# Altium footprint library OpticalComponents.PcbLib: 41 footprints (part 3 of 3)
Each footprint in its own frame and in the unit in brackets; x right, y up, seen from the top. Pads: shape width x height; smd on the part's side, far side on the other; paste and mask are expansions set on the pad; w line width, h text height; cw(c..) or ccw(c..) is an arc to the next point about the centre after c.
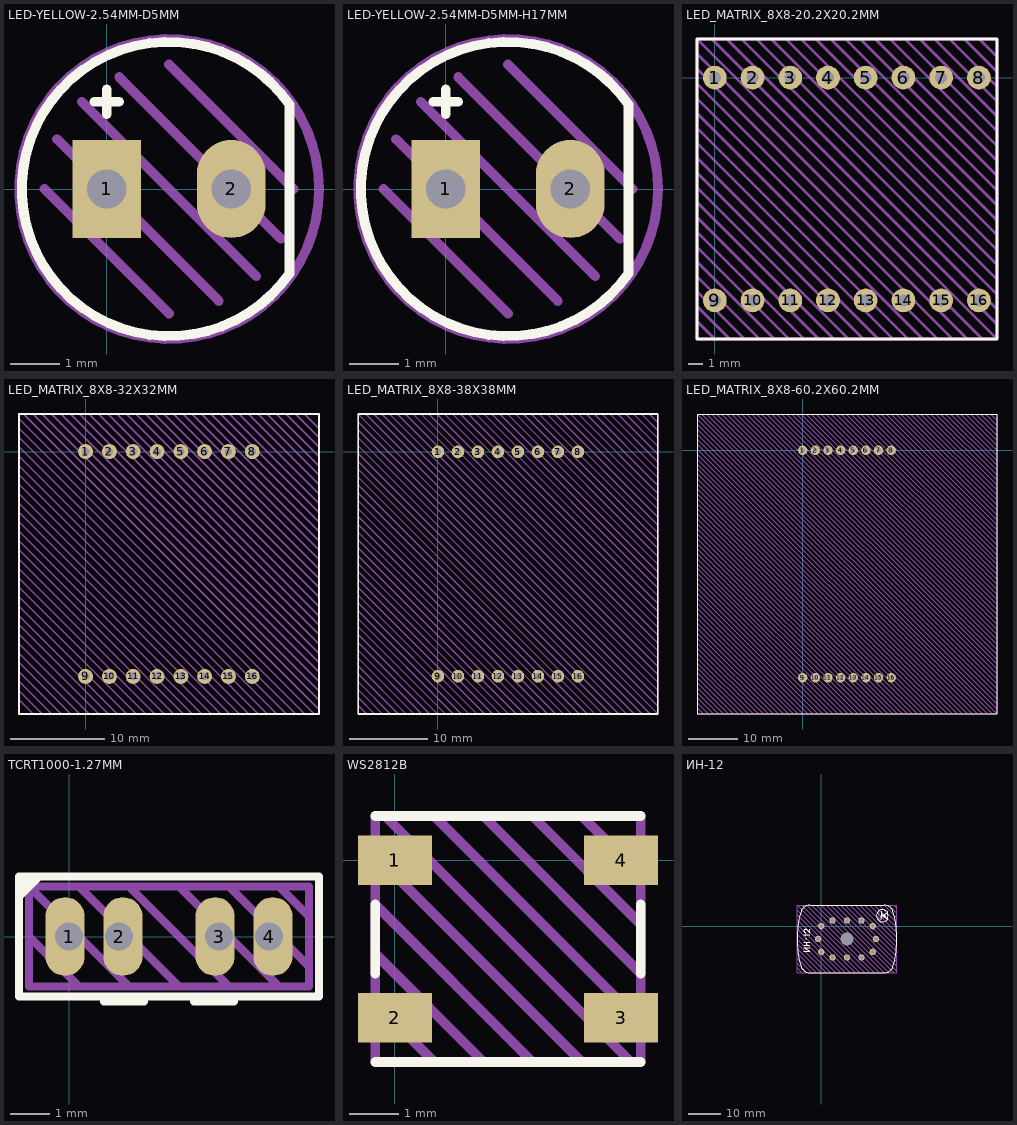
[diagram p2: the footprints below, top view; thin cyan lines are the x and y axes]

## LED-YELLOW-2.54MM-D5MM [mm]
pads (2):
  rect 1.4x2 hole 0.8: 1(0,0)
  oval 1.4x2 hole 0.8: 2(2.54,0)
Top Overlay:
  lines w0.2: -0.254,1.778 -0.127,1.778 0.127,1.778 0.254,1.778 ; 0,1.524 0,2.032 ; 3.727,-1.721 cw(c1.27,0) 3.727,1.721 3.727,-1.721
Top Draw:
  circle w0.2: c1.27,0 r3.059
  lines w0.2: -1.27,0 1.27,-2.54 ; -1.016,1.016 2.286,-2.286 ; -0.508,1.778 3.048,-1.778 ; 0.254,2.286 3.556,-1.016 ; 1.27,2.54 3.81,0
Top Info:
  text "'.Comment'" at -1.578,-4.372 h1
3D body: height 0.5, standoff -3, extent -0.25,-0.25 0.25,0.25
3D body: height 0.5, standoff -3, extent 2.29,-0.25 2.79,0.25
3D body: height 5.2, standoff 1, extent -1.23,-2.5 3.77,2.5
3D body: height 7.7, standoff 2.7, extent -1.236,-2.5 3.764,2.5
3D body: height 1, standoff 0, extent -1.63,-2.909 3.77,2.909

## LED-YELLOW-2.54MM-D5MM-H17MM [mm]
pads (2):
  rect 1.4x2 hole 0.8: 1(0,0)
  oval 1.4x2 hole 0.8: 2(2.54,0)
Top Overlay:
  lines w0.2: -0.254,1.778 -0.127,1.778 0.127,1.778 0.254,1.778 ; 0,1.524 0,2.032 ; 3.727,-1.721 cw(c1.27,0) 3.727,1.721 3.727,-1.721
Top Draw:
  circle w0.2: c1.27,0 r3.059
  lines w0.2: -1.27,0 1.27,-2.54 ; -1.016,1.016 2.286,-2.286 ; -0.508,1.778 3.048,-1.778 ; 0.254,2.286 3.556,-1.016 ; 1.27,2.54 3.81,0
Top Info:
  text "'.Comment'" at -1.578,-4.372 h1
3D body: height 10, standoff -3, extent 2.29,-0.25 2.79,0.25
3D body: height 10, standoff -3, extent -0.25,-0.25 0.25,0.25
3D body: height 7.8, standoff 7, extent -0.3,-0.25 0.3,0.25
3D body: height 7.8, standoff 7, extent 2.24,-0.25 2.84,0.25
3D body: height 14.5, standoff 10.3, extent -1.23,-2.5 3.77,2.5
3D body: height 17, standoff 12, extent -1.236,-2.5 3.764,2.5
3D body: height 10.3, standoff 9.3, extent -1.63,-2.909 3.77,2.909

## LED_MATRIX_8X8-20.2X20.2MM [mm]
pads (16):
  round 1.6 hole 0.8: 1(0,0) 2(2.54,0) 3(5.08,0) 4(7.62,0) 5(10.16,0) 6(12.7,0) 7(15.24,0) 8(17.78,0) 9(0,-15) 10(2.54,-15) 11(5.08,-15) 12(7.62,-15) 13(10.16,-15) 14(12.7,-15) 15(15.24,-15) 16(17.78,-15)
Top Overlay:
  lines w0.2: -1.2,-17.6 -1.2,2.6 19,2.6 19,-17.6 -1.2,-17.6
Top Draw:
  lines w0.2: -1.2,-16.4 0,-17.6 ; -1.2,-15.4 1,-17.6 ; -1.2,-14.4 2,-17.6 ; -1.2,-13.4 3,-17.6 ; -1.2,-12.4 4,-17.6 ; -1.2,-11.4 5,-17.6 ; -1.2,-10.4 6,-17.6 ; -1.2,-9.4 7,-17.6 ; -1.2,-8.4 8,-17.6 ; -1.2,-7.4 9,-17.6 ; -1.2,-6.4 10,-17.6 ; -1.2,-5.4 11,-17.6 ; -1.2,-4.4 12,-17.6 ; -1.2,-3.4 13,-17.6 ; -1.2,-2.4 14,-17.6 ; -1.2,-1.4 15,-17.6 ; -1.2,-0.4 16,-17.6 ; -1.2,0.6 17,-17.6 ; -1.2,1.6 18,-17.6 ; -0.2,2.6 19,-16.6 ; 0.8,2.6 19,-15.6 ; 1.8,2.6 19,-14.6 ; 2.8,2.6 19,-13.6 ; 3.8,2.6 19,-12.6 ; 4.8,2.6 19,-11.6 ; 5.8,2.6 19,-10.6 ; 6.8,2.6 19,-9.6 ; 7.8,2.6 19,-8.6 ; 8.8,2.6 19,-7.6 ; 9.8,2.6 19,-6.6 ; 10.8,2.6 19,-5.6 ; 11.8,2.6 19,-4.6 ; 12.8,2.6 19,-3.6 ; 13.8,2.6 19,-2.6 ; 14.8,2.6 19,-1.6 ; 15.8,2.6 19,-0.6 ; 16.8,2.6 19,0.4 ; 17.8,2.6 19,1.4 ; -1.2,2.6 19,-17.6 ; -1.2,2.6 19,2.6 19,-17.6 ; -1.2,2.6 -1.2,-17.6 19,-17.6
Top Info:
  text "'.Comment'" at 0.393,-20.666 h2
3D body "LED_MATRIX_8X8-20.2X20.2MM.stp": height 5.9, standoff -2.7, extent -1.21,-17.6 18.99,2.6

## LED_MATRIX_8X8-32X32MM [mm]
pads (16):
  round 1.6 hole 0.8: 1(0,0) 2(2.54,0) 3(5.08,0) 4(7.62,0) 5(10.16,0) 6(12.7,0) 7(15.24,0) 8(17.78,0) 9(0,-24) 10(2.54,-24) 11(5.08,-24) 12(7.62,-24) 13(10.16,-24) 14(12.7,-24) 15(15.24,-24) 16(17.78,-24)
Top Overlay:
  lines w0.2: -7.1,-28 24.9,-28 24.9,4 -7.1,4 -7.1,-28
Top Draw:
  lines w0.2: -7.103,-26.501 -5.603,-28.001 ; -7.103,-25.501 -4.603,-28.001 ; -7.103,-24.501 -3.603,-28.001 ; -7.103,-23.501 -2.603,-28.001 ; -7.103,-22.501 -1.603,-28.001 ; -7.103,-21.501 -0.603,-28.001 ; -7.103,-20.501 0.397,-28.001 ; -7.103,-19.501 1.397,-28.001 ; -7.103,-18.501 2.397,-28.001 ; -7.103,-17.501 3.397,-28.001 ; -7.103,-16.501 4.397,-28.001 ; -7.103,-15.501 5.397,-28.001 ; -7.103,-14.501 6.397,-28.001 ; -7.103,-13.501 7.397,-28.001 ; -7.103,-12.501 8.397,-28.001 ; -7.103,-11.501 9.397,-28.001 ; -7.103,-10.501 10.397,-28.001 ; -7.103,-9.501 11.397,-28.001 ; -7.103,-8.501 12.397,-28.001 ; -7.103,-7.501 13.397,-28.001 ; -7.103,-6.501 14.397,-28.001 ; -7.103,-5.501 15.397,-28.001 ; -7.103,-4.501 16.397,-28.001 ; -7.103,-3.501 17.397,-28.001 ; -7.103,-2.501 18.397,-28.001 ; -7.103,-1.501 19.397,-28.001 ; -7.103,-0.501 20.397,-28.001 ; -7.103,0.499 21.397,-28.001 ; -7.103,1.499 22.397,-28.001 ; -7.103,2.499 23.397,-28.001 ; -7.103,3.499 24.397,-28.001 ; -6.603,3.999 24.897,-27.501 ; -5.603,3.999 24.897,-26.501 ; -4.603,3.999 24.897,-25.501 ; -3.603,3.999 24.897,-24.501 ; -2.603,3.999 24.897,-23.501 ; -1.603,3.999 24.897,-22.501 ; -0.603,3.999 24.897,-21.501 ; 0.397,3.999 24.897,-20.501 ; 1.397,3.999 24.897,-19.501 ; 2.397,3.999 24.897,-18.501 ; 3.397,3.999 24.897,-17.501 ; 4.397,3.999 24.897,-16.501 ; 5.397,3.999 24.897,-15.501 ; 6.397,3.999 24.897,-14.501 ; 7.397,3.999 24.897,-13.501 ; 8.397,3.999 24.897,-12.501 ; 9.397,3.999 24.897,-11.501 ; 10.397,3.999 24.897,-10.501 ; 11.397,3.999 24.897,-9.501 ; 12.397,3.999 24.897,-8.501 ; 13.397,3.999 24.897,-7.501 ; 14.397,3.999 24.897,-6.501 ; 15.397,3.999 24.897,-5.501 ; 16.397,3.999 24.897,-4.501 ; 17.397,3.999 24.897,-3.501 ; 18.397,3.999 24.897,-2.501 ; 19.397,3.999 24.897,-1.501 ; 20.397,3.999 24.897,-0.501 ; 21.397,3.999 24.897,0.499 ; 22.397,3.999 24.897,1.499 ; 23.397,3.999 24.897,2.499 ; -7.103,-28.001 24.897,-28.001 24.897,3.999 -7.103,3.999 -7.103,-28.001
Top Info:
  text "'.Comment'" at -1.732,-31.708 h2.5
3D body "LED_MATRIX_8X8-32X32MM.stp": height 6.08, standoff -2.7, extent -7.11,-28 24.89,4

## LED_MATRIX_8X8-38X38MM [mm]
pads (16):
  round 1.6 hole 0.8: 1(0,0) 2(2.54,0) 3(5.08,0) 4(7.62,0) 5(10.16,0) 6(12.7,0) 7(15.24,0) 8(17.78,0) 9(0,-28.5) 10(2.54,-28.5) 11(5.08,-28.5) 12(7.62,-28.5) 13(10.16,-28.5) 14(12.7,-28.5) 15(15.24,-28.5) 16(17.78,-28.5)
Top Overlay:
  lines w0.2: -10.1,-33.3 -10.1,4.8 27.9,4.8 27.9,-33.3 -10.1,-33.3
Top Draw:
  lines w0.2: -10.1,-32.25 -9.05,-33.3 ; -10.1,-31.25 -8.05,-33.3 ; -10.1,-30.25 -7.05,-33.3 ; -10.1,-29.25 -6.05,-33.3 ; -10.1,-28.25 -5.05,-33.3 ; -10.1,-27.25 -4.05,-33.3 ; -10.1,-26.25 -3.05,-33.3 ; -10.1,-25.25 -2.05,-33.3 ; -10.1,-24.25 -1.05,-33.3 ; -10.1,-23.25 -0.05,-33.3 ; -10.1,-22.25 0.95,-33.3 ; -10.1,-21.25 1.95,-33.3 ; -10.1,-20.25 2.95,-33.3 ; -10.1,-19.25 3.95,-33.3 ; -10.1,-18.25 4.95,-33.3 ; -10.1,-17.25 5.95,-33.3 ; -10.1,-16.25 6.95,-33.3 ; -10.1,-15.25 7.95,-33.3 ; -10.1,-14.25 8.95,-33.3 ; -10.1,-13.25 9.95,-33.3 ; -10.1,-12.25 10.95,-33.3 ; -10.1,-11.25 11.95,-33.3 ; -10.1,-10.25 12.95,-33.3 ; -10.1,-9.25 13.95,-33.3 ; -10.1,-8.25 14.95,-33.3 ; -10.1,-7.25 15.95,-33.3 ; -10.1,-6.25 16.95,-33.3 ; -10.1,-5.25 17.95,-33.3 ; -10.1,-4.25 18.95,-33.3 ; -10.1,-3.25 19.95,-33.3 ; -10.1,-2.25 20.95,-33.3 ; -10.1,-1.25 21.95,-33.3 ; -10.1,-0.25 22.95,-33.3 ; -10.1,0.75 23.95,-33.3 ; -10.1,1.75 24.95,-33.3 ; -10.1,2.75 25.95,-33.3 ; -10.1,3.75 26.95,-33.3 ; -10.1,4.75 27.9,-33.25 ; -9.15,4.8 27.9,-32.25 ; -8.15,4.8 27.9,-31.25 ; -7.15,4.8 27.9,-30.25 ; -6.15,4.8 27.9,-29.25 ; -5.15,4.8 27.9,-28.25 ; -4.15,4.8 27.9,-27.25 ; -3.15,4.8 27.9,-26.25 ; -2.15,4.8 27.9,-25.25 ; -1.15,4.8 27.9,-24.25 ; -0.15,4.8 27.9,-23.25 ; 0.85,4.8 27.9,-22.25 ; 1.85,4.8 27.9,-21.25 ; 2.85,4.8 27.9,-20.25 ; 3.85,4.8 27.9,-19.25 ; 4.85,4.8 27.9,-18.25 ; 5.85,4.8 27.9,-17.25 ; 6.85,4.8 27.9,-16.25 ; 7.85,4.8 27.9,-15.25 ; 8.85,4.8 27.9,-14.25 ; 9.85,4.8 27.9,-13.25 ; 10.85,4.8 27.9,-12.25 ; 11.85,4.8 27.9,-11.25 ; 12.85,4.8 27.9,-10.25 ; 13.85,4.8 27.9,-9.25 ; 14.85,4.8 27.9,-8.25 ; 15.85,4.8 27.9,-7.25 ; 16.85,4.8 27.9,-6.25 ; 17.85,4.8 27.9,-5.25 ; 18.85,4.8 27.9,-4.25 ; 19.85,4.8 27.9,-3.25 ; 20.85,4.8 27.9,-2.25 ; 21.85,4.8 27.9,-1.25 ; 22.85,4.8 27.9,-0.25 ; 23.85,4.8 27.9,0.75 ; 24.85,4.8 27.9,1.75 ; 25.85,4.8 27.9,2.75 ; 26.85,4.8 27.9,3.75 ; -10.1,-33.3 -10.1,4.8 27.9,4.8 27.9,-33.3 -10.1,-33.3
Top Info:
  text "'.Comment'" at -5.98,-38.541 h3.5
3D body "LED_MATRIX_8X8-38X38MM.stp": height 7.2, standoff -2.7, extent -10.11,-33.25 27.89,4.75

## LED_MATRIX_8X8-60.2X60.2MM [mm]
pads (16):
  round 1.9 hole 0.9: 1(0,0) 2(2.54,0) 3(5.08,0) 4(7.62,0) 5(10.16,0) 6(12.7,0) 7(15.24,0) 8(17.78,0) 9(0,-45.7) 10(2.54,-45.7) 11(5.08,-45.7) 12(7.62,-45.7) 13(10.16,-45.7) 14(12.7,-45.7) 15(15.24,-45.7) 16(17.78,-45.7)
Top Overlay:
  lines w0.2: -21.2,-53 -21.2,7.3 39,7.3 39,-53 -21.2,-53
Top Draw:
  lines w0.2: -21.2,-51.75 -19.95,-53 ; -21.2,-50.75 -18.95,-53 ; -21.2,-49.75 -17.95,-53 ; -21.2,-48.75 -16.95,-53 ; -21.2,-47.75 -15.95,-53 ; -21.2,-46.75 -14.95,-53 ; -21.2,-45.75 -13.95,-53 ; -21.2,-44.75 -12.95,-53 ; -21.2,-43.75 -11.95,-53 ; -21.2,-42.75 -10.95,-53 ; -21.2,-41.75 -9.95,-53 ; -21.2,-40.75 -8.95,-53 ; -21.2,-39.75 -7.95,-53 ; -21.2,-38.75 -6.95,-53 ; -21.2,-37.75 -5.95,-53 ; -21.2,-36.75 -4.95,-53 ; -21.2,-35.75 -3.95,-53 ; -21.2,-34.75 -2.95,-53 ; -21.2,-33.75 -1.95,-53 ; -21.2,-32.75 -0.95,-53 ; -21.2,-31.75 0.05,-53 ; -21.2,-30.75 1.05,-53 ; -21.2,-29.75 2.05,-53 ; -21.2,-28.75 3.05,-53 ; -21.2,-27.75 4.05,-53 ; -21.2,-26.75 5.05,-53 ; -21.2,-25.75 6.05,-53 ; -21.2,-24.75 7.05,-53 ; -21.2,-23.75 8.05,-53 ; -21.2,-22.75 9.05,-53 ; -21.2,-21.75 10.05,-53 ; -21.2,-20.75 11.05,-53 ; -21.2,-19.75 12.05,-53 ; -21.2,-18.75 13.05,-53 ; -21.2,-17.75 14.05,-53 ; -21.2,-16.75 15.05,-53 ; -21.2,-15.75 16.05,-53 ; -21.2,-14.75 17.05,-53 ; -21.2,-13.75 18.05,-53 ; -21.2,-12.75 19.05,-53 ; -21.2,-11.75 20.05,-53 ; -21.2,-10.75 21.05,-53 ; -21.2,-9.75 22.05,-53 ; -21.2,-8.75 23.05,-53 ; -21.2,-7.75 24.05,-53 ; -21.2,-6.75 25.05,-53 ; -21.2,-5.75 26.05,-53 ; -21.2,-4.75 27.05,-53 ; -21.2,-3.75 28.05,-53 ; -21.2,-2.75 29.05,-53 ; -21.2,-1.75 30.05,-53 ; -21.2,-0.75 31.05,-53 ; -21.2,0.25 32.05,-53 ; -21.2,1.25 33.05,-53 ; -21.2,2.25 34.05,-53 ; -21.2,3.25 35.05,-53 ; -21.2,4.25 36.05,-53 ; -21.2,5.25 37.05,-53 ; -21.2,6.25 38.05,-53 ; -21.2,7.25 39,-52.95 ; -20.25,7.3 39,-51.95 ; -19.25,7.3 39,-50.95 ; -18.25,7.3 39,-49.95 ; -17.25,7.3 39,-48.95 ; -16.25,7.3 39,-47.95 ; -15.25,7.3 39,-46.95 ; -14.25,7.3 39,-45.95 ; -13.25,7.3 39,-44.95 ; -12.25,7.3 39,-43.95 ; -11.25,7.3 39,-42.95 ; -10.25,7.3 39,-41.95 ; -9.25,7.3 39,-40.95 ; -8.25,7.3 39,-39.95 ; -7.25,7.3 39,-38.95 ; -6.25,7.3 39,-37.95 ; -5.25,7.3 39,-36.95 ; -4.25,7.3 39,-35.95 ; -3.25,7.3 39,-34.95 ; -2.25,7.3 39,-33.95 ; -1.25,7.3 39,-32.95 ; -0.25,7.3 39,-31.95 ; 0.75,7.3 39,-30.95 ; 1.75,7.3 39,-29.95 ; 2.75,7.3 39,-28.95 ; 3.75,7.3 39,-27.95 ; 4.75,7.3 39,-26.95 ; 5.75,7.3 39,-25.95 ; 6.75,7.3 39,-24.95 ; 7.75,7.3 39,-23.95 ; 8.75,7.3 39,-22.95 ; 9.75,7.3 39,-21.95 ; 10.75,7.3 39,-20.95 ; 11.75,7.3 39,-19.95 ; 12.75,7.3 39,-18.95 ; 13.75,7.3 39,-17.95 ; 14.75,7.3 39,-16.95 ; 15.75,7.3 39,-15.95 ; 16.75,7.3 39,-14.95 ; 17.75,7.3 39,-13.95 ; 18.75,7.3 39,-12.95 ; 19.75,7.3 39,-11.95 ; 20.75,7.3 39,-10.95 ; 21.75,7.3 39,-9.95 ; 22.75,7.3 39,-8.95 ; 23.75,7.3 39,-7.95 ; 24.75,7.3 39,-6.95 ; 25.75,7.3 39,-5.95 ; 26.75,7.3 39,-4.95 ; 27.75,7.3 39,-3.95 ; 28.75,7.3 39,-2.95 ; 29.75,7.3 39,-1.95 ; 30.75,7.3 39,-0.95 ; 31.75,7.3 39,0.05 ; 32.75,7.3 39,1.05 ; 33.75,7.3 39,2.05 ; 34.75,7.3 39,3.05 ; 35.75,7.3 39,4.05 ; 36.75,7.3 39,5.05 ; 37.75,7.3 39,6.05 ; -21.2,-53 -21.2,7.3 39,7.3 39,-53 -21.2,-53
Top Info:
  text "'.Comment'" at -12.353,-60.166 h5
3D body "LED_MATRIX_8X8-60.2X60.2MM.stp": height 9.2, standoff -2.7, extent -21.21,-52.96 38.99,7.24

## TCRT1000-1.27MM [mm]
pads (4):
  oval 1x2 hole 0.7 copper offset -0.1,0: 1(0,0) 3(3.81,0)
  oval 1x2 hole 0.7 copper offset 0.1,0: 2(1.27,0) 4(5.08,0)
Top Overlay:
  lines w0.2: -1.27,1.016 -0.762,1.524 ; -1.27,1.27 -1.016,1.524 -0.762,1.524 ; 0,1.524 -0.762,1.524 ; 0.889,-1.651 1.905,-1.651 ; 3.175,-1.651 4.191,-1.651 ; -1.27,-1.524 6.35,-1.524 6.35,1.524 2.54,1.524 -1.27,1.524 -1.27,-1.524
Top Draw:
  lines w0.2: -1.016,0 0.254,-1.27 1.27,-1.27 ; 0.254,1.27 2.794,-1.27 2.54,-1.27 1.524,-1.27 -1.016,1.27 ; 1.524,1.27 4.064,-1.27 5.08,-1.27 6.096,-1.27 ; 2.794,1.27 5.334,-1.27 6.096,-1.27 ; 4.064,1.27 6.096,-0.762 6.096,-1.27 ; 5.334,1.27 6.096,0.508 6.096,0 ; -1.016,1.27 -1.016,-1.27 6.096,-1.27 ; -1.016,1.27 6.096,1.27 6.096,-1.27
Top Info:
  text "'.Comment'" at -1.143,-2.667 h0.75
3D body: height 11, standoff 9, extent 0,-1.325 5.08,-1.25
3D body: height 6.5, standoff 6, extent 5.33,-0.15 5.78,0.15
3D body: height 8, standoff -1.78, extent 4.83,-0.15 5.33,0.15
3D body: height 6.5, standoff 6, extent 3.11,-0.15 3.56,0.15
3D body: height 8, standoff -1.78, extent 3.56,-0.15 4.06,0.15
3D body: height 6.5, standoff 6, extent 1.52,-0.15 1.97,0.15
3D body: height 8, standoff -1.78, extent 1.02,-0.15 1.52,0.15
3D body: height 6.5, standoff 6, extent -0.7,-0.15 -0.25,0.15
3D body: height 8, standoff -1.78, extent -0.25,-0.15 0.25,0.15
3D body: height 12, standoff 8, extent 2.5,-1.35 6,-1.25
3D body: height 11, standoff -1.78, extent -0.2,-0.1 0.2,0.1
3D body: height 12, standoff 8, extent -1,-1.35 2.5,-1.25
3D body: height 12, standoff 8, extent -1,-1.25 6,1.25

## WS2812B [mm]
pads (4):
  rect 1.5x1 smd: 1(0,0) 2(0,-3.2) 3(4.6,-3.2) 4(4.6,0)
Top Overlay:
  lines w0.2: -0.4,-4.1 5,-4.1 ; -0.4,-2.3 -0.4,-0.9 ; -0.4,0.9 5,0.9 ; 5,-2.3 5,-0.9
Top Draw:
  lines w0.2: -0.4,-2.9 0.8,-4.1 ; -0.4,-1.9 1.8,-4.1 ; -0.4,-0.9 2.8,-4.1 ; -0.4,0.1 3.8,-4.1 ; -0.2,0.9 4.8,-4.1 ; 0.8,0.9 5,-3.3 ; 1.8,0.9 5,-2.3 ; 2.8,0.9 5,-1.3 ; 3.8,0.9 5,-0.3 ; -0.4,-4.1 5,-4.1 5,0.9 -0.4,0.9 -0.4,-4.1
Top Info:
  text "'.Comment'" at -1.099,-5.367 h0.8
3D body "WS2812B.step": height 1.7, standoff 0, extent -0.375,-4.075 4.975,0.875

## ИН-12 [mm]
pads (13):
  round 2 hole 1.2: 1(0,0) 2(3.5,1.75) 3(8,1.75) 4(12.5,1.75) 5(16,0) 6(17,-4) 7(16,-8) 8(12.5,-9.75) 9(8,-9.75) 10(3.5,-9.75) 11(0,-8) 12(-1,-4)
  round 0 hole 4 unplated: ""(8,-4)
Top Layer:
  circle w0.2: c8,-4 r1.75
Top Overlay:
  region: 20.35,2.275 19,3.25 20.35,4.225 19.525,3.275
  region: 19,3.25 18.575,1.925 18.675,3.25 18.575,4.575
  lines w0.05: 19,3.25 18.575,1.925 18.675,3.25 18.575,4.575 19,3.25 ; 19,3.25 20.35,4.225 19.525,3.275 20.35,2.275 19,3.25
  lines w0.127: 17,3.25 cw(c20.655,2.048) 18.382,5.152 cw(c18.471,1.622) 20.618,4.426 cw(c15.448,3.25) 20.618,2.074 cw(c18.792,3.891) 18.382,1.348 cw(c20.655,4.453) 17,3.25
  lines w0.2: -5.375,-7.75 -3.625,-7.75 -5.375,-6.75 -3.625,-6.75 ; -5.375,-6 -3.625,-6 ; -5.375,-5 -3.625,-5 ; -4.875,-3 -5.375,-2.75 -3.625,-2.75 ; -4.875,-2 cw(c-4.875,-1.5) -5.375,-1.5 cw(c-4.875,-1.5) -4.875,-1 cw(c-4.875,-1.604) -4.448,-1.177 -3.625,-2 -3.625,-1 ; -4.625,-4.25 -4.625,-3.75 ; -4.5,-6 -4.5,-5 ; -6.285,-12.614 cw(c23.552,-4) -6.285,4.614 cw(c-3.5,3.5) -3.5,6.5 19.5,6.5 cw(c19.5,3.5) 22.285,4.614 cw(c-7.552,-4) 22.285,-12.614 cw(c19.5,-11.5) 19.5,-14.5 -3.5,-14.5 cw(c-3.5,-11.5) -6.285,-12.614
  text "C" at 18.35,2.283 h0.4
  text "C" at 18.01,3.406 h0.4
  text "C" at 18.084,2.819 h0.4
  text "P" at 18.207,3.97 h0.4
Top Draw:
  lines w0.2: -7.5,-13 -6,-14.5 ; -7.5,-11.5 -4.5,-14.5 ; -7.5,-10 -3,-14.5 ; -7.5,-8.5 -1.5,-14.5 ; -7.5,-7 0,-14.5 ; -7.5,-5.5 1.5,-14.5 ; -7.5,-4 3,-14.5 ; -7.5,-2.5 4.5,-14.5 ; -7.5,-1 6,-14.5 ; -7.5,0.5 7.5,-14.5 ; -7.5,2 9,-14.5 ; -7.5,3.5 10.5,-14.5 ; -7.5,5 12,-14.5 ; -6,6.5 15,-14.5 ; -4.5,6.5 16.5,-14.5 ; -3,6.5 18,-14.5 ; -1.5,6.5 19.5,-14.5 ; 0,6.5 21,-14.5 ; 1.5,6.5 22.5,-14.5 ; 3,6.5 23.5,-14 ; 4.5,6.5 23.5,-12.5 ; 6,6.5 23.5,-11 ; 7.5,6.5 23.5,-9.5 ; 9,6.5 23.5,-8 ; 10.5,6.5 23.5,-6.5 ; 12,6.5 23.5,-5 ; 13.5,-14.5 -7.5,6.5 ; 13.5,6.5 23.5,-3.5 ; 15,6.5 23.5,-2 ; 16.5,6.5 23.5,-0.5 ; 18,6.5 23.5,1 ; 19.5,6.5 23.5,2.5 ; 21,6.5 23.5,4 ; 22.5,6.5 23.5,5.5 ; -7.5,6.5 23.5,6.5 23.5,-14.5 -7.5,-14.5 -7.5,6.5
Top Info:
  text "'.Comment'" at -0.497,-17.366 h2
3D body "ИН-12_Колба.STEP": height 26.8, standoff -6.2, extent -7,-14 23,6
3D body "ИН-12_Внутренности.STEP": height 20, standoff -9.5, extent -4.5,-12.619 20.5,4.619